# EAGLE library part STM32F767 (library xmosxl)
STM32 for xmosxl
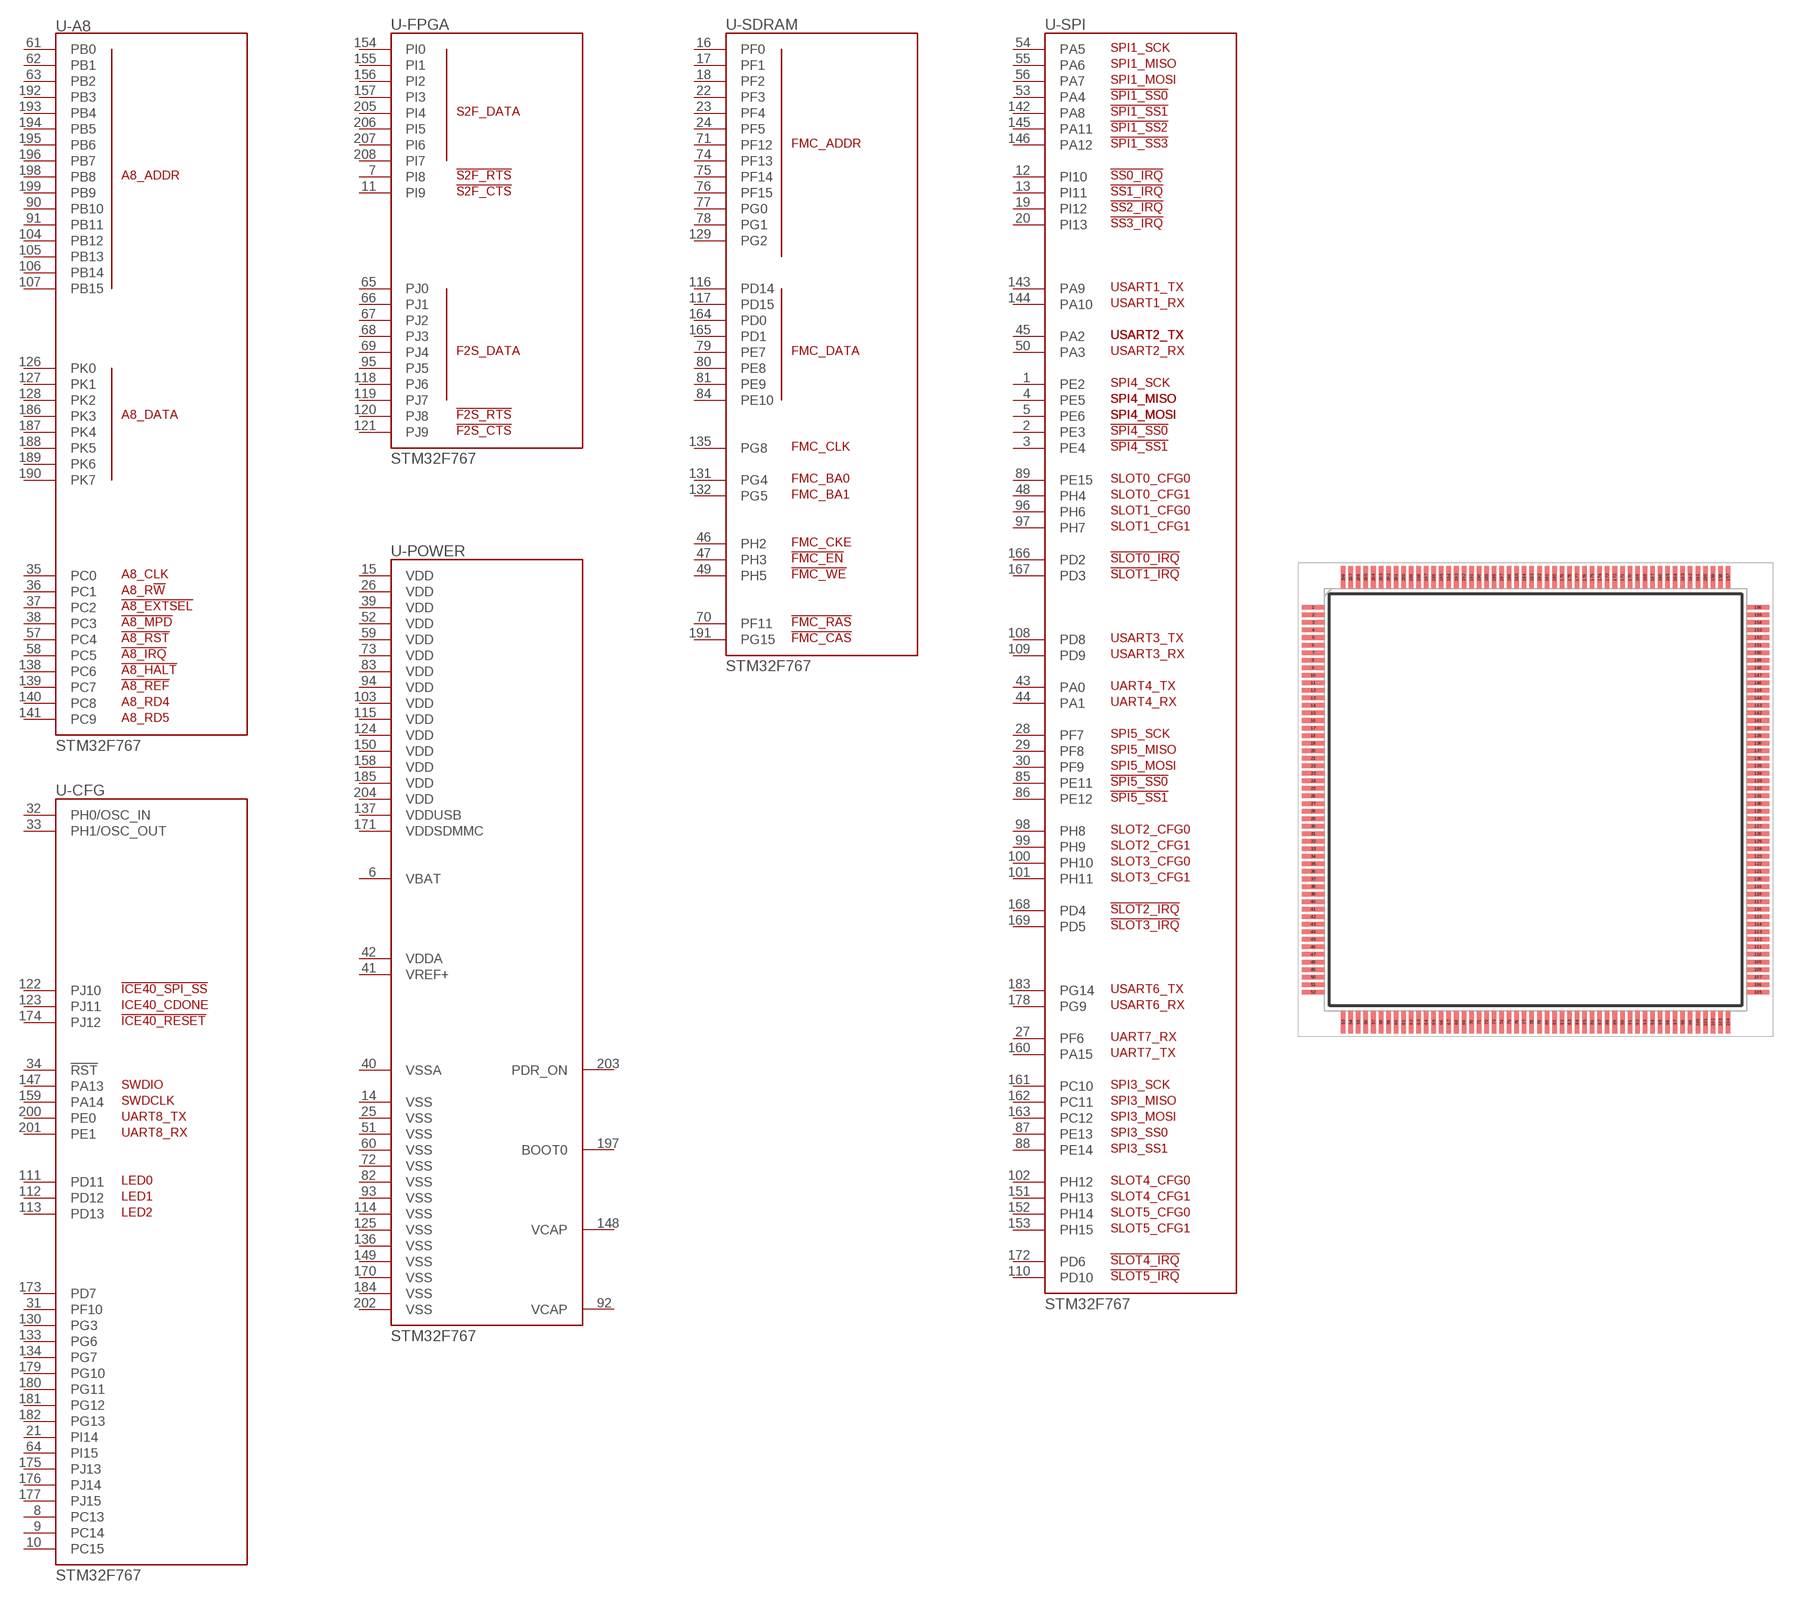
[diagram p4: symbol with the pads of QFP50P3000X3000X160-208N; footprint QFP50P3000X3000X160-208N]

Designator prefix -; gates -A8=STM32F767BGT6-A8 -CFG=STM32F767BGT6-CFG -FPGA=STM32F767BGT6-FPGA -POWER=STM32F767BGT6-POWER -SDRAM=STM32F767BGT6-SDRAM -SPI=STM32F767BGT6-SPI

## STM32F767  [QFP50P3000X3000X160-208N]
1  -SPI:PE2
2  -SPI:PE3
3  -SPI:PE4
4  -SPI:PE5
5  -SPI:PE6
6  -POWER:VBAT  pwr
7  -FPGA:PI8
8  -CFG:PC13
9  -CFG:PC14
10  -CFG:PC15
11  -FPGA:PI9
12  -SPI:PI10
13  -SPI:PI11
14  -POWER:VSS  pwr
15  -POWER:VDD  pwr
16  -SDRAM:PF0
17  -SDRAM:PF1
18  -SDRAM:PF2
19  -SPI:PI12
20  -SPI:PI13
21  -CFG:PI14
22  -SDRAM:PF3
23  -SDRAM:PF4
24  -SDRAM:PF5
25  -POWER:VSS  pwr
26  -POWER:VDD  pwr
27  -SPI:PF6
28  -SPI:PF7
29  -SPI:PF8
30  -SPI:PF9
31  -CFG:PF10
32  -CFG:PH0/OSC_IN
33  -CFG:PH1/OSC_OUT
34  -CFG:!RST!
35  -A8:PC0
36  -A8:PC1
37  -A8:PC2
38  -A8:PC3
39  -POWER:VDD  pwr
40  -POWER:VSSA  pwr
41  -POWER:VREF+  pwr
42  -POWER:VDDA  pwr
43  -SPI:PA0
44  -SPI:PA1
45  -SPI:PA2
46  -SDRAM:PH2
47  -SDRAM:PH3
48  -SPI:PH4
49  -SDRAM:PH5
50  -SPI:PA3
51  -POWER:VSS  pwr
52  -POWER:VDD  pwr
53  -SPI:PA4
54  -SPI:PA5
55  -SPI:PA6
56  -SPI:PA7
57  -A8:PC4
58  -A8:PC5
59  -POWER:VDD  pwr
60  -POWER:VSS  pwr
61  -A8:PB0
62  -A8:PB1
63  -A8:PB2
64  -CFG:PI15
65  -FPGA:PJ0
66  -FPGA:PJ1
67  -FPGA:PJ2
68  -FPGA:PJ3
69  -FPGA:PJ4
70  -SDRAM:PF11
71  -SDRAM:PF12
72  -POWER:VSS  pwr
73  -POWER:VDD  pwr
74  -SDRAM:PF13
75  -SDRAM:PF14
76  -SDRAM:PF15
77  -SDRAM:PG0
78  -SDRAM:PG1
79  -SDRAM:PE7
80  -SDRAM:PE8
81  -SDRAM:PE9
82  -POWER:VSS  pwr
83  -POWER:VDD  pwr
84  -SDRAM:PE10
85  -SPI:PE11
86  -SPI:PE12
87  -SPI:PE13
88  -SPI:PE14
89  -SPI:PE15
90  -A8:PB10
91  -A8:PB11
92  -POWER:VCAP  pwr
93  -POWER:VSS  pwr
94  -POWER:VDD  pwr
95  -FPGA:PJ5
96  -SPI:PH6
97  -SPI:PH7
98  -SPI:PH8
99  -SPI:PH9
100  -SPI:PH10
101  -SPI:PH11
102  -SPI:PH12
103  -POWER:VDD  pwr
104  -A8:PB12
105  -A8:PB13
106  -A8:PB14
107  -A8:PB15
108  -SPI:PD8
109  -SPI:PD9
110  -SPI:PD10
111  -CFG:PD11
112  -CFG:PD12
113  -CFG:PD13
114  -POWER:VSS  pwr
115  -POWER:VDD  pwr
116  -SDRAM:PD14
117  -SDRAM:PD15
118  -FPGA:PJ6
119  -FPGA:PJ7
120  -FPGA:PJ8
121  -FPGA:PJ9
122  -CFG:PJ10
123  -CFG:PJ11
124  -POWER:VDD  pwr
125  -POWER:VSS  pwr
126  -A8:PK0
127  -A8:PK1
128  -A8:PK2
129  -SDRAM:PG2
130  -CFG:PG3
131  -SDRAM:PG4
132  -SDRAM:PG5
133  -CFG:PG6
134  -CFG:PG7
135  -SDRAM:PG8
136  -POWER:VSS  pwr
137  -POWER:VDDUSB  pwr
138  -A8:PC6
139  -A8:PC7
140  -A8:PC8
141  -A8:PC9
142  -SPI:PA8
143  -SPI:PA9
144  -SPI:PA10
145  -SPI:PA11
146  -SPI:PA12
147  -CFG:PA13
148  -POWER:VCAP  pwr
149  -POWER:VSS  pwr
150  -POWER:VDD  pwr
151  -SPI:PH13
152  -SPI:PH14
153  -SPI:PH15
154  -FPGA:PI0
155  -FPGA:PI1
156  -FPGA:PI2
157  -FPGA:PI3
158  -POWER:VDD  pwr
159  -CFG:PA14
160  -SPI:PA15
161  -SPI:PC10
162  -SPI:PC11
163  -SPI:PC12
164  -SDRAM:PD0
165  -SDRAM:PD1
166  -SPI:PD2
167  -SPI:PD3
168  -SPI:PD4
169  -SPI:PD5
170  -POWER:VSS  pwr
171  -POWER:VDDSDMMC  pwr
172  -SPI:PD6
173  -CFG:PD7
174  -CFG:PJ12
175  -CFG:PJ13
176  -CFG:PJ14
177  -CFG:PJ15
178  -SPI:PG9
179  -CFG:PG10
180  -CFG:PG11
181  -CFG:PG12
182  -CFG:PG13
183  -SPI:PG14
184  -POWER:VSS  pwr
185  -POWER:VDD  pwr
186  -A8:PK3
187  -A8:PK4
188  -A8:PK5
189  -A8:PK6
190  -A8:PK7
191  -SDRAM:PG15
192  -A8:PB3
193  -A8:PB4
194  -A8:PB5
195  -A8:PB6
196  -A8:PB7
197  -POWER:BOOT0
198  -A8:PB8
199  -A8:PB9
200  -CFG:PE0
201  -CFG:PE1
202  -POWER:VSS  pwr
203  -POWER:PDR_ON
204  -POWER:VDD  pwr
205  -FPGA:PI4
206  -FPGA:PI5
207  -FPGA:PI6
208  -FPGA:PI7

## Footprint QFP50P3000X3000X160-208N (pad centres in mm)
LQFP-208
smd 1.475 x 0.3: 1 -14.738,12.75; 2 -14.738,12.25; 3 -14.738,11.75; 4 -14.738,11.25; 5 -14.738,10.75; 6 -14.738,10.25; 7 -14.738,9.75; 8 -14.738,9.25; 9 -14.738,8.75; 10 -14.738,8.25; 11 -14.738,7.75; 12 -14.738,7.25; 13 -14.738,6.75; 14 -14.738,6.25; 15 -14.738,5.75; 16 -14.738,5.25; 17 -14.738,4.75; 18 -14.738,4.25; 19 -14.738,3.75; 20 -14.738,3.25; 21 -14.738,2.75; 22 -14.738,2.25; 23 -14.738,1.75; 24 -14.738,1.25; 25 -14.738,0.75; 26 -14.738,0.25; 27 -14.738,-0.25; 28 -14.738,-0.75; 29 -14.738,-1.25; 30 -14.738,-1.75; 31 -14.738,-2.25; 32 -14.738,-2.75; 33 -14.738,-3.25; 34 -14.738,-3.75; 35 -14.738,-4.25; 36 -14.738,-4.75; 37 -14.738,-5.25; 38 -14.738,-5.75; 39 -14.738,-6.25; 40 -14.738,-6.75; 41 -14.738,-7.25; 42 -14.738,-7.75; 43 -14.738,-8.25; 44 -14.738,-8.75; 45 -14.738,-9.25; 46 -14.738,-9.75; 47 -14.738,-10.25; 48 -14.738,-10.75; 49 -14.738,-11.25; 50 -14.738,-11.75; 51 -14.738,-12.25; 52 -14.738,-12.75; 105 14.738,-12.75; 106 14.738,-12.25; 107 14.738,-11.75; 108 14.738,-11.25; 109 14.738,-10.75; 110 14.738,-10.25; 111 14.738,-9.75; 112 14.738,-9.25; 113 14.738,-8.75; 114 14.738,-8.25; 115 14.738,-7.75; 116 14.738,-7.25; 117 14.738,-6.75; 118 14.738,-6.25; 119 14.738,-5.75; 120 14.738,-5.25; 121 14.738,-4.75; 122 14.738,-4.25; 123 14.738,-3.75; 124 14.738,-3.25; 125 14.738,-2.75; 126 14.738,-2.25; 127 14.738,-1.75; 128 14.738,-1.25; 129 14.738,-0.75; 130 14.738,-0.25; 131 14.738,0.25; 132 14.738,0.75; 133 14.738,1.25; 134 14.738,1.75; 135 14.738,2.25; 136 14.738,2.75; 137 14.738,3.25; 138 14.738,3.75; 139 14.738,4.25; 140 14.738,4.75; 141 14.738,5.25; 142 14.738,5.75; 143 14.738,6.25; 144 14.738,6.75; 145 14.738,7.25; 146 14.738,7.75; 147 14.738,8.25; 148 14.738,8.75; 149 14.738,9.25; 150 14.738,9.75; 151 14.738,10.25; 152 14.738,10.75; 153 14.738,11.25; 154 14.738,11.75; 155 14.738,12.25; 156 14.738,12.75
smd 0.3 x 1.475: 53 -12.75,-14.738; 54 -12.25,-14.738; 55 -11.75,-14.738; 56 -11.25,-14.738; 57 -10.75,-14.738; 58 -10.25,-14.738; 59 -9.75,-14.738; 60 -9.25,-14.738; 61 -8.75,-14.738; 62 -8.25,-14.738; 63 -7.75,-14.738; 64 -7.25,-14.738; 65 -6.75,-14.738; 66 -6.25,-14.738; 67 -5.75,-14.738; 68 -5.25,-14.738; 69 -4.75,-14.738; 70 -4.25,-14.738; 71 -3.75,-14.738; 72 -3.25,-14.738; 73 -2.75,-14.738; 74 -2.25,-14.738; 75 -1.75,-14.738; 76 -1.25,-14.738; 77 -0.75,-14.738; 78 -0.25,-14.738; 79 0.25,-14.738; 80 0.75,-14.738; 81 1.25,-14.738; 82 1.75,-14.738; 83 2.25,-14.738; 84 2.75,-14.738; 85 3.25,-14.738; 86 3.75,-14.738; 87 4.25,-14.738; 88 4.75,-14.738; 89 5.25,-14.738; 90 5.75,-14.738; 91 6.25,-14.738; 92 6.75,-14.738; 93 7.25,-14.738; 94 7.75,-14.738; 95 8.25,-14.738; 96 8.75,-14.738; 97 9.25,-14.738; 98 9.75,-14.738; 99 10.25,-14.738; 100 10.75,-14.738; 101 11.25,-14.738; 102 11.75,-14.738; 103 12.25,-14.738; 104 12.75,-14.738; 157 12.75,14.738; 158 12.25,14.738; 159 11.75,14.738; 160 11.25,14.738; 161 10.75,14.738; 162 10.25,14.738; 163 9.75,14.738; 164 9.25,14.738; 165 8.75,14.738; 166 8.25,14.738; 167 7.75,14.738; 168 7.25,14.738; 169 6.75,14.738; 170 6.25,14.738; 171 5.75,14.738; 172 5.25,14.738; 173 4.75,14.738; 174 4.25,14.738; 175 3.75,14.738; 176 3.25,14.738; 177 2.75,14.738; 178 2.25,14.738; 179 1.75,14.738; 180 1.25,14.738; 181 0.75,14.738; 182 0.25,14.738; 183 -0.25,14.738; 184 -0.75,14.738; 185 -1.25,14.738; 186 -1.75,14.738; 187 -2.25,14.738; 188 -2.75,14.738; 189 -3.25,14.738; 190 -3.75,14.738; 191 -4.25,14.738; 192 -4.75,14.738; 193 -5.25,14.738; 194 -5.75,14.738; 195 -6.25,14.738; 196 -6.75,14.738; 197 -7.25,14.738; 198 -7.75,14.738; 199 -8.25,14.738; 200 -8.75,14.738; 201 -9.25,14.738; 202 -9.75,14.738; 203 -10.25,14.738; 204 -10.75,14.738; 205 -11.25,14.738; 206 -11.75,14.738; 207 -12.25,14.738; 208 -12.75,14.738